# Altium schematic symbol library RF.SchLib: 13 symbols
Pins are listed as number, name and electrical type; pins without a type are passive.

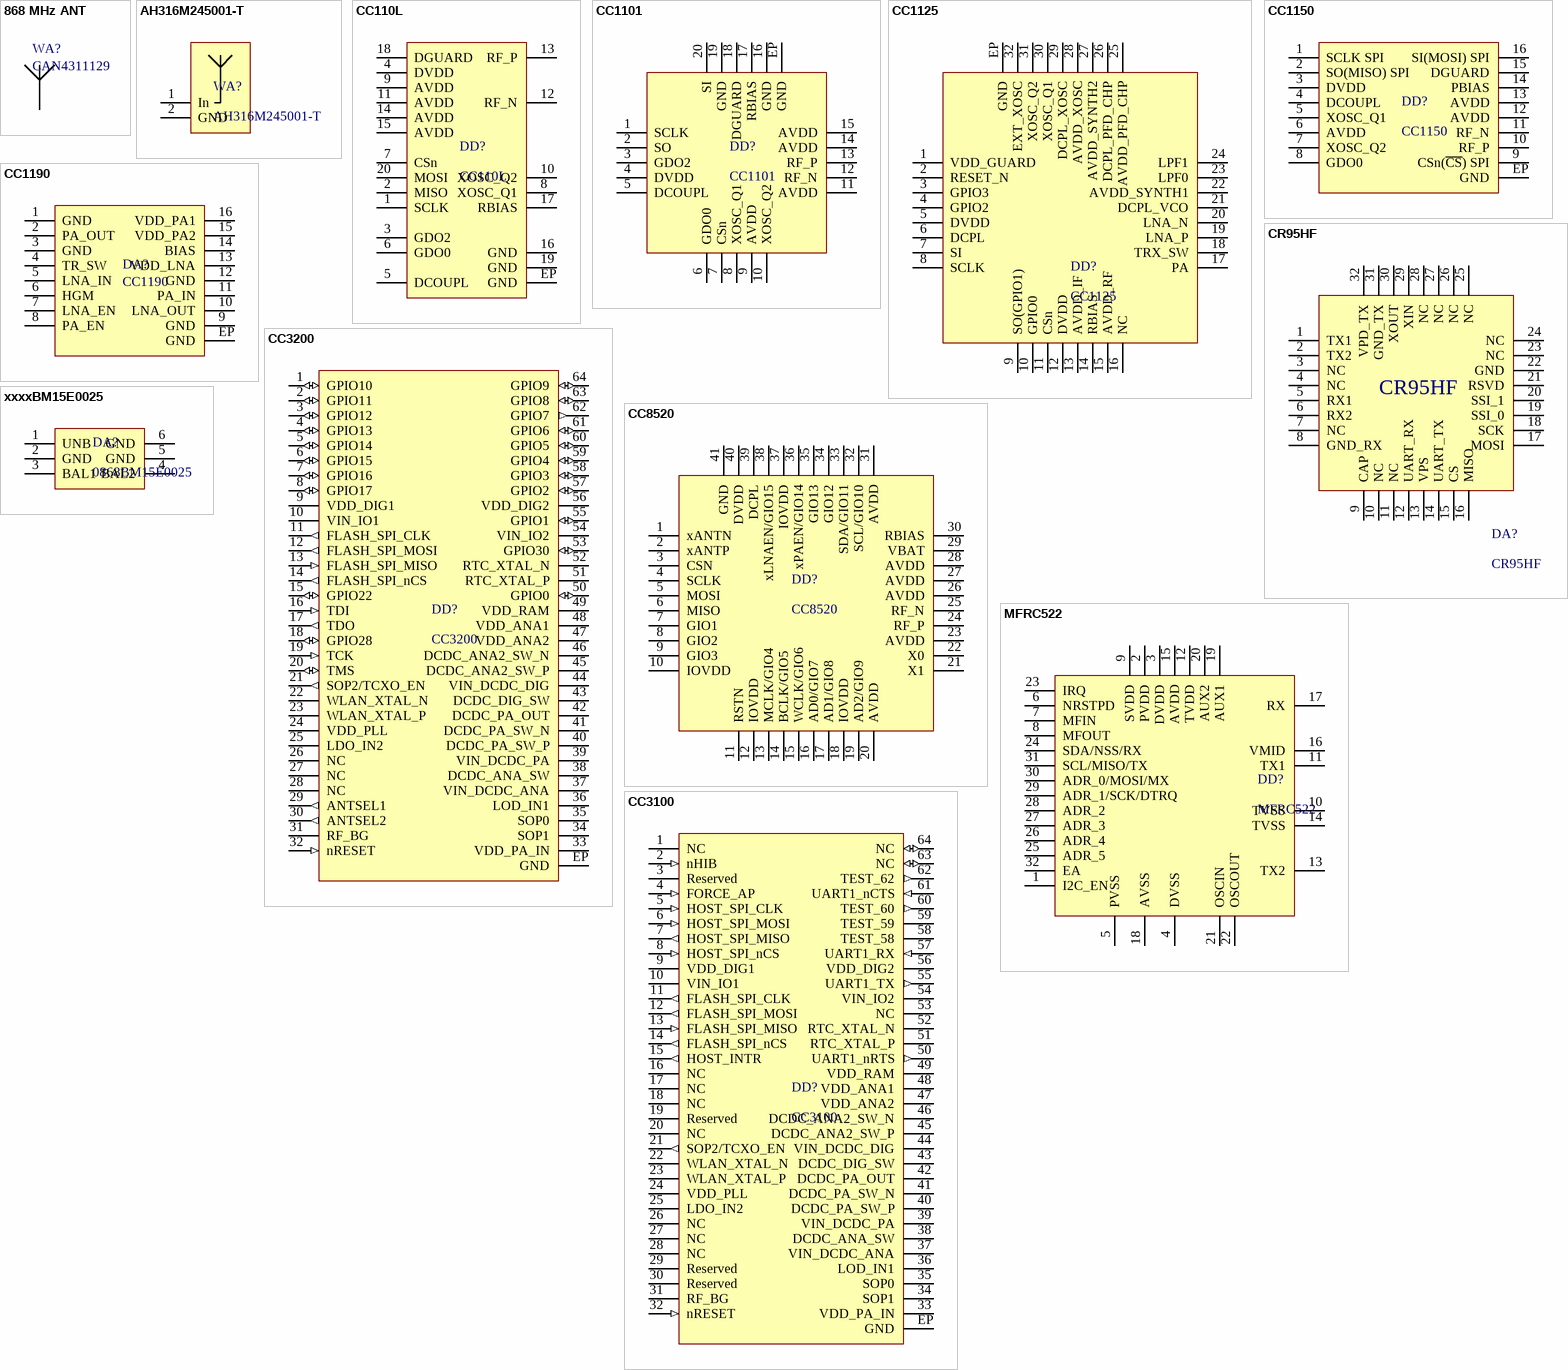
[diagram p0: symbols 868 MHz ANT to СС3100]

## 868 MHz ANT
designator WA?, comment CAN4311129
footprint CAN4311129090871K
pins: 1 ANT

## AH316M245001-T
designator WA?
AH316M245001-T 2.4GHz Antenna
footprint AH316M245001-T (AH316M245001-T 2.4GHz antenna)
pins: 1 In, 2 GND

## CC110L
designator DD?
Value Line Transceiver
footprint QFN-20
pins: 1 SCLK, 2 MISO, 3 GDO2, 4 DVDD, 5 DCOUPL, 6 GDO0, 7 CSn, 8 XOSC_Q1, 9 AVDD, 10 XOSC_Q2, 11 AVDD, 12 RF_N, 13 RF_P, 14 AVDD, 15 AVDD, 16 GND, 17 RBIAS, 18 DGUARD, 19 GND, 20 MOSI, EP GND

## CC1101
designator DD?
Low-Power Sub-1 GHz RF Transceiver
footprint QFN-20
pins: 1 SCLK, 2 SO, 3 GDO2, 4 DVDD, 5 DCOUPL, 6 GDO0, 7 CSn, 8 XOSC_Q1, 9 AVDD, 10 XOSC_Q2, 11 AVDD, 12 RF_N, 13 RF_P, 14 AVDD, 15 AVDD, 16 GND, 17 RBIAS, 18 DGUARD, 19 GND, 20 SI, EP GND

## CC1125
designator DD?
Ultra-High Perfomance RF Narrowband Tranceiver
footprint QFN-32
pins: 1 VDD_GUARD, 2 RESET_N, 3 GPIO3, 4 GPIO2, 5 DVDD, 6 DCPL, 7 SI, 8 SCLK, 9 SO(GPIO1), 10 GPIO0, 11 CSn, 12 DVDD, 13 AVDD_IF, 14 RBIAS, 15 AVDD_RF, 16 NC, 17 PA, 18 TRX_SW, 19 LNA_P, 20 LNA_N, 21 DCPL_VCO, 22 AVDD_SYNTH1, 23 LPF0, 24 LPF1, 25 AVDD_PFD_CHP, 26 DCPL_PFD_CHP, 27 AVDD_SYNTH2, 28 AVDD_XOSC, 29 DCPL_XOSC, 30 XOSC_Q1, 31 XOSC_Q2, 32 EXT_XOSC, EP GND

## CC1150
designator DD?
Low Power Sub-1GHz RF Transmitter; DVDD: 1.8-3.6V IN; DCOUPL: 1.8-2.0V OUT; XTAL: 26 MHz; Box: QFP-16; AVDD: 1.8-3.6V IN
footprint QFN-16
pins: 1 SCLK SPI, 2 SO(MISO) SPI, 3 DVDD, 4 DCOUPL, 5 XOSC_Q1, 6 AVDD, 7 XOSC_Q2, 8 GDO0, 9 CSn(~{CS}) SPI, 10 RF_P, 11 RF_N, 12 AVDD, 13 AVDD, 14 PBIAS, 15 DGUARD, 16 SI(MOSI) SPI, EP GND

## CC1190
designator DA?
850 – 950 MHz RF Front End
footprint QFN-16
pins: 1 GND, 2 PA_OUT, 3 GND, 4 TR_SW, 5 LNA_IN, 6 HGM, 7 LNA_EN, 8 PA_EN, 9 GND, 10 LNA_OUT, 11 PA_IN, 12 GND, 13 VDD_LNA, 14 BIAS, 15 VDD_PA2, 16 VDD_PA1, EP GND

## CC3200
designator DD?
Wi-Fi tranciever and Cortex-M4 MCU core
footprint VQFN-64
pins: 1 GPIO10 (io), 2 GPIO11 (io), 3 GPIO12 (io), 4 GPIO13 (io), 5 GPIO14 (io), 6 GPIO15 (io), 7 GPIO16 (io), 8 GPIO17 (io), 9 VDD_DIG1 (power), 10 VIN_IO1 (power), 11 FLASH_SPI_CLK (out), 12 FLASH_SPI_MOSI (out), 13 FLASH_SPI_MISO (in), 14 FLASH_SPI_nCS (out), 15 GPIO22 (io), 16 TDI (in), 17 TDO (out), 18 GPIO28 (io), 19 TCK (in), 20 TMS (io), 21 SOP2/TCXO_EN (out), 22 WLAN_XTAL_N, 23 WLAN_XTAL_P, 24 VDD_PLL (power), 25 LDO_IN2 (power), 26 NC, 27 NC, 28 NC, 29 ANTSEL1 (out), 30 ANTSEL2 (out), 31 RF_BG, 32 nRESET (in), 33 VDD_PA_IN (power), 34 SOP1, 35 SOP0, 36 LOD_IN1 (power), 37 VIN_DCDC_ANA (power), 38 DCDC_ANA_SW (power), 39 VIN_DCDC_PA (power), 40 DCDC_PA_SW_P (power), 41 DCDC_PA_SW_N (power), 42 DCDC_PA_OUT (power), 43 DCDC_DIG_SW (power), 44 VIN_DCDC_DIG (power), 45 DCDC_ANA2_SW_P (power), 46 DCDC_ANA2_SW_N (power), 47 VDD_ANA2 (power), 48 VDD_ANA1 (power), 49 VDD_RAM (power), 50 GPIO0 (io), 51 RTC_XTAL_P, 52 RTC_XTAL_N, 53 GPIO30 (io), 54 VIN_IO2 (power), 55 GPIO1 (io), 56 VDD_DIG2 (power), 57 GPIO2 (io), 58 GPIO3 (io), 59 GPIO4 (io), 60 GPIO5 (io), 61 GPIO6 (io), 62 GPIO7 (out), 63 GPIO8 (io), 64 GPIO9 (io), EP GND (power)

## CC8520
designator DD?
TI Wireless Audio tranciever
footprint QFN-40 (QFN, 40-Leads, Body 6,00x6,00mm, Pitch 0,50mm, Thermal Pad 4,50x4,50mm, IPC Medium Density)
pins: 1 xANTN, 2 xANTP, 3 CSN, 4 SCLK, 5 MOSI, 6 MISO, 7 GIO1, 8 GIO2, 9 GIO3, 10 IOVDD, 11 RSTN, 12 IOVDD, 13 MCLK/GIO4, 14 BCLK/GIO5, 15 WCLK/GIO6, 16 AD0/GIO7, 17 AD1/GIO8, 18 IOVDD, 19 AD2/GIO9, 20 AVDD, 21 X1, 22 X0, 23 AVDD, 24 RF_P, 25 RF_N, 26 AVDD, 27 AVDD, 28 AVDD, 29 VBAT, 30 RBIAS, 31 AVDD, 32 SCL/GIO10, 33 SDA/GIO11, 34 GIO12, 35 GIO13, 36 xPAEN/GIO14, 37 IOVDD, 38 xLNAEN/GIO15, 39 DCPL, 40 DVDD, 41 GND

## CR95HF
designator DA?
RFID IC with SPI/UART
footprint VFQFPN-32
pins: 1 TX1, 2 TX2, 3 NC, 4 NC, 5 RX1, 6 RX2, 7 NC, 8 GND_RX, 9 CAP, 10 NC, 11 NC, 12 UART_RX, 13 VPS, 14 UART_TX, 15 CS, 16 MISO, 17 MOSI, 18 SCK, 19 SSI_0, 20 SSI_1, 21 RSVD, 22 GND, 23 NC, 24 NC, 25 NC, 26 NC, 27 NC, 28 NC, 29 XIN, 30 XOUT, 31 GND_TX, 32 VPD_TX

## MFRC522
designator DD?
NXP Mifare NFC reader
footprint VFQFPN-32
pins: 1 I2C_EN, 2 PVDD, 3 DVDD, 4 DVSS, 5 PVSS, 6 NRSTPD, 7 MFIN, 8 MFOUT, 9 SVDD, 10 TVSS, 11 TX1, 12 TVDD, 13 TX2, 14 TVSS, 15 AVDD, 16 VMID, 17 RX, 18 AVSS, 19 AUX1, 20 AUX2, 21 OSCIN, 22 OSCOUT, 23 IRQ, 24 SDA/NSS/RX, 25 ADR_5, 26 ADR_4, 27 ADR_3, 28 ADR_2, 29 ADR_1/SCK/DTRQ, 30 ADR_0/MOSI/MX, 31 SCL/MISO/TX, 32 EA

## xxxxBM15E0025
designator DA?, comment 0868BM15E0025
Balun for CC11xx Johanson Technology
footprint xxxxBM15yyyyy (CC11xx balun Johanson Technology)
pins: 1 UNB, 2 GND, 3 BAL1, 4 BAL2, 5 GND, 6 GND

## СС3100
designator DD?, comment CC3100
Wi-Fi tranciever
footprint VQFN-64
pins: 1 NC, 2 nHIB (in), 3 Reserved, 4 FORCE_AP (in), 5 HOST_SPI_CLK (in), 6 HOST_SPI_MOSI (in), 7 HOST_SPI_MISO (out), 8 HOST_SPI_nCS (in), 9 VDD_DIG1 (power), 10 VIN_IO1 (power), 11 FLASH_SPI_CLK (out), 12 FLASH_SPI_MOSI (out), 13 FLASH_SPI_MISO (in), 14 FLASH_SPI_nCS (out), 15 HOST_INTR (out), 16 NC, 17 NC, 18 NC, 19 Reserved, 20 NC, 21 SOP2/TCXO_EN (out), 22 WLAN_XTAL_N, 23 WLAN_XTAL_P, 24 VDD_PLL (power), 25 LDO_IN2 (power), 26 NC, 27 NC, 28 NC, 29 Reserved, 30 Reserved, 31 RF_BG, 32 nRESET (in), 33 VDD_PA_IN (power), 34 SOP1, 35 SOP0, 36 LOD_IN1 (power), 37 VIN_DCDC_ANA (power), 38 DCDC_ANA_SW (power), 39 VIN_DCDC_PA (power), 40 DCDC_PA_SW_P (power), 41 DCDC_PA_SW_N (power), 42 DCDC_PA_OUT (power), 43 DCDC_DIG_SW (power), 44 VIN_DCDC_DIG (power), 45 DCDC_ANA2_SW_P (power), 46 DCDC_ANA2_SW_N (power), 47 VDD_ANA2 (power), 48 VDD_ANA1 (power), 49 VDD_RAM (power), 50 UART1_nRTS (out), 51 RTC_XTAL_P, 52 RTC_XTAL_N, 53 NC, 54 VIN_IO2 (power), 55 UART1_TX (out), 56 VDD_DIG2 (power), 57 UART1_RX (in), 58 TEST_58 (power), 59 TEST_59 (power), 60 TEST_60 (out), 61 UART1_nCTS (in), 62 TEST_62 (out), 63 NC (io), 64 NC (io), EP GND (power)